# Altium integrated library Atmel Microcontroller AVR Battery Management.IntLib: 7 symbols
Pins are listed as number, name and electrical type; pins without a type are passive.

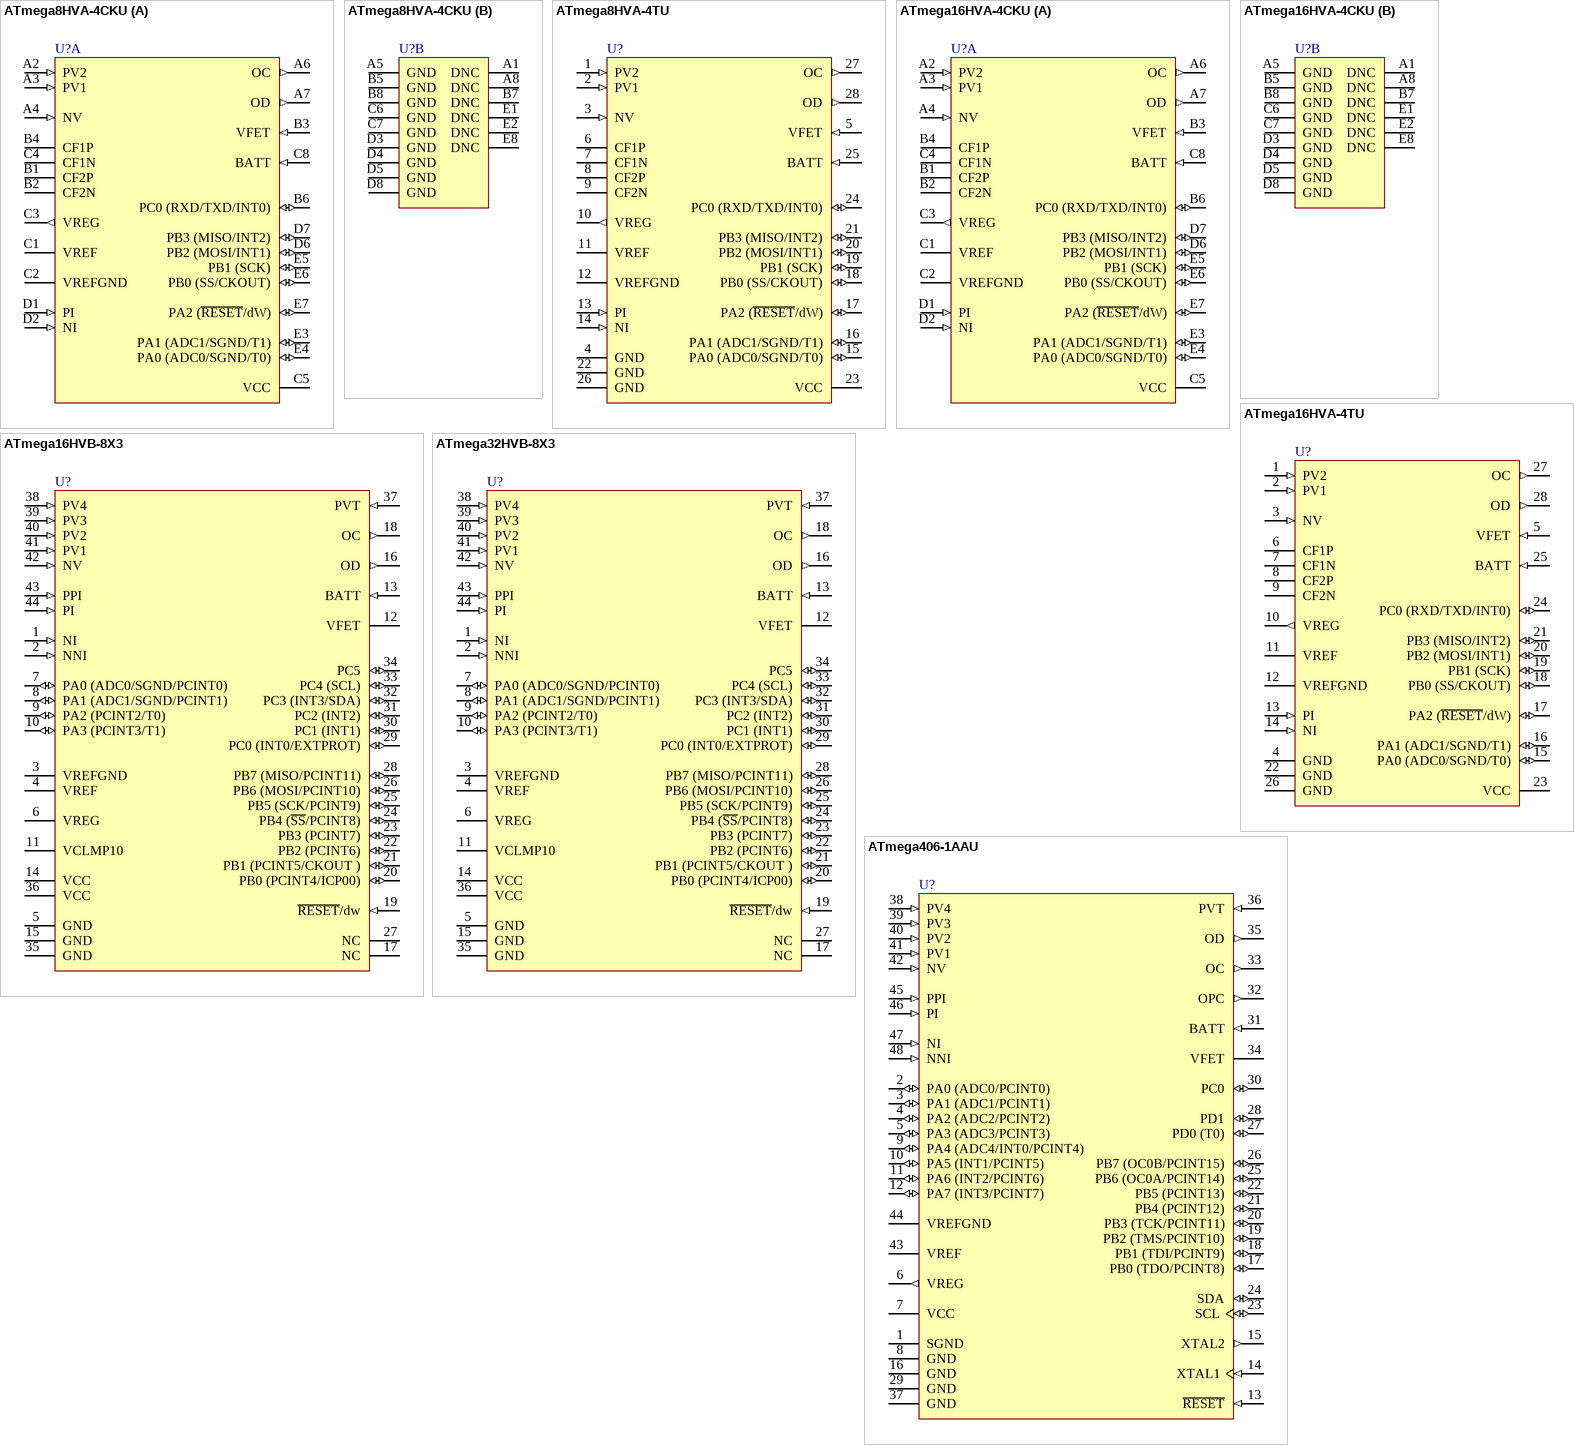
[diagram p0: symbols ATmega8HVA-4CKU to ATmega406-1AAU]

## ATmega8HVA-4CKU
designator U?
8-bit AVR Microcontroller, 8KB Flash, 256 Bytes EEPROM, 512 Bytes SRAM, 6 I/Os, (-20°C to +85°C), 36-pin LGA; DatasheetVersion: revA, Apr-2008; PackageVersion: Mar-2007; PackageReference: 36CK1; PackageDescription: 36-Ball Land Grid Array (LGA) Package, 6.5 x 3.5 x 0.73 mm Body, 0.60 mm Pitch; ComponentLink1Description: Manufacturer URL; ComponentLink1URL: http://www.atmel.com/; ComponentLink2Description: ATmega8HVA/16HVA Datasheet; ComponentLink2URL: http://www.atmel.com/dyn/resources/prod_documents/doc8024.pdf; ComponentLink3Description: ATmega8HVA/16HVA Summary; ComponentLink3URL: http://www.atmel.com/dyn/resources/prod_documents/8024S.pdf
footprint 36CK1 (BGA, 40-Leads, Body 3.5x6.5mm, Pitch 0.6mm)
part A pins: A2 PV2 (in), A3 PV1 (in), A4 NV (in), A6 OC (out), A7 OD (out), B1 CF2P, B2 CF2N, B3 VFET (in), B4 CF1P, B6 PC0 (RXD/TXD/INT0) (io), C1 VREF, C2 VREFGND (power), C3 VREG (out), C4 CF1N, C5 VCC (power), C8 BATT (in), D1 PI (in), D2 NI (in), D6 PB2 (MOSI/INT1) (io), D7 PB3 (MISO/INT2) (io), E3 PA1 (ADC1/SGND/T1) (io), E4 PA0 (ADC0/SGND/T0) (io), E5 PB1 (SCK) (io), E6 PB0 (SS/CKOUT) (io), E7 PA2 (~{RESET}/dW) (io)
part B pins: A1 DNC, A5 GND (power), A8 DNC, B5 GND (power), B7 DNC, B8 GND (power), C6 GND (power), C7 GND (power), D3 GND (power), D4 GND (power), D5 GND (power), D8 GND (power), E1 DNC, E2 DNC, E8 DNC

## ATmega8HVA-4TU
designator U?
8-bit AVR Microcontroller, 8KB Flash, 256 Bytes EEPROM, 512 Bytes SRAM, 6 I/Os, (-20°C to +85°C), 28-pin TSOP; DatasheetVersion: revA, Apr-2008; PackageVersion: revC, Dec-2002; PackageReference: 28T; PackageDescription: 28-Pin Plastic Thin Small Outline Package, Type 1 (TSOP), 8 x 13.4 mm; Code_JEDEC: MO-183; ComponentLink1Description: Manufacturer URL; ComponentLink1URL: http://www.atmel.com/; ComponentLink2Description: ATmega8HVA/16HVA Datasheet; ComponentLink2URL: http://www.atmel.com/dyn/resources/prod_documents/doc8024.pdf; ComponentLink3Description: ATmega8HVA/16HVA Summary; ComponentLink3URL: http://www.atmel.com/dyn/resources/prod_documents/8024S.pdf
footprint 28T_N (TSSOP, 28-Leads, Body 8x11.8mm, Pitch 0.55mm, IPC Medium Density)
footprint 28T_L (TSSOP, 28-Leads, Body 8x11.8mm, Pitch 0.55mm, IPC High Density)
footprint 28T_M (TSSOP, 28-Leads, Body 8x11.8mm, Pitch 0.55mm, IPC Low Density)
pins: 1 PV2 (in), 2 PV1 (in), 3 NV (in), 4 GND (power), 5 VFET (in), 6 CF1P, 7 CF1N, 8 CF2P, 9 CF2N, 10 VREG (out), 11 VREF, 12 VREFGND (power), 13 PI (in), 14 NI (in), 15 PA0 (ADC0/SGND/T0) (io), 16 PA1 (ADC1/SGND/T1) (io), 17 PA2 (~{RESET}/dW) (io), 18 PB0 (SS/CKOUT) (io), 19 PB1 (SCK) (io), 20 PB2 (MOSI/INT1) (io), 21 PB3 (MISO/INT2) (io), 22 GND (power), 23 VCC (power), 24 PC0 (RXD/TXD/INT0) (io), 25 BATT (in), 26 GND (power), 27 OC (out), 28 OD (out)

## ATmega16HVA-4CKU
designator U?
8-bit AVR Microcontroller, 16KB Flash, 256 Bytes EEPROM, 512 Bytes SRAM, 6 I/Os, (-20°C to +85°C), 36-pin LGA; DatasheetVersion: revA, Apr-2008; PackageVersion: Mar-2007; PackageReference: 36CK1; PackageDescription: 36-Ball Land Grid Array (LGA) Package, 6.5 x 3.5 x 0.73 mm Body, 0.60 mm Pitch; ComponentLink1Description: Manufacturer URL; ComponentLink1URL: http://www.atmel.com/; ComponentLink2Description: ATmega8HVA/16HVA Datasheet; ComponentLink2URL: http://www.atmel.com/dyn/resources/prod_documents/doc8024.pdf; ComponentLink3Description: ATmega8HVA/16HVA Summary; ComponentLink3URL: http://www.atmel.com/dyn/resources/prod_documents/8024S.pdf
footprint 36CK1 (BGA, 40-Leads, Body 3.5x6.5mm, Pitch 0.6mm)
part A pins: A2 PV2 (in), A3 PV1 (in), A4 NV (in), A6 OC (out), A7 OD (out), B1 CF2P, B2 CF2N, B3 VFET (in), B4 CF1P, B6 PC0 (RXD/TXD/INT0) (io), C1 VREF, C2 VREFGND (power), C3 VREG (out), C4 CF1N, C5 VCC (power), C8 BATT (in), D1 PI (in), D2 NI (in), D6 PB2 (MOSI/INT1) (io), D7 PB3 (MISO/INT2) (io), E3 PA1 (ADC1/SGND/T1) (io), E4 PA0 (ADC0/SGND/T0) (io), E5 PB1 (SCK) (io), E6 PB0 (SS/CKOUT) (io), E7 PA2 (~{RESET}/dW) (io)
part B pins: A1 DNC, A5 GND (power), A8 DNC, B5 GND (power), B7 DNC, B8 GND (power), C6 GND (power), C7 GND (power), D3 GND (power), D4 GND (power), D5 GND (power), D8 GND (power), E1 DNC, E2 DNC, E8 DNC

## ATmega16HVA-4TU
designator U?
8-bit AVR Microcontroller, 16KB Flash, 256 Bytes EEPROM, 512 Bytes SRAM, 6 I/Os, (-20°C to +85°C), 28-pin TSOP; DatasheetVersion: revA, Apr-2008; PackageVersion: revC, Dec-2002; PackageReference: 28T; PackageDescription: 28-Pin Plastic Thin Small Outline Package, Type 1 (TSOP), 8 x 13.4 mm; Code_JEDEC: MO-183; ComponentLink1Description: Manufacturer URL; ComponentLink1URL: http://www.atmel.com/; ComponentLink2Description: ATmega8HVA/16HVA Datasheet; ComponentLink2URL: http://www.atmel.com/dyn/resources/prod_documents/doc8024.pdf; ComponentLink3Description: ATmega8HVA/16HVA Summary; ComponentLink3URL: http://www.atmel.com/dyn/resources/prod_documents/8024S.pdf
footprint 28T_N (TSSOP, 28-Leads, Body 8x11.8mm, Pitch 0.55mm, IPC Medium Density)
footprint 28T_L (TSSOP, 28-Leads, Body 8x11.8mm, Pitch 0.55mm, IPC High Density)
footprint 28T_M (TSSOP, 28-Leads, Body 8x11.8mm, Pitch 0.55mm, IPC Low Density)
pins: 1 PV2 (in), 2 PV1 (in), 3 NV (in), 4 GND (power), 5 VFET (in), 6 CF1P, 7 CF1N, 8 CF2P, 9 CF2N, 10 VREG (out), 11 VREF, 12 VREFGND (power), 13 PI (in), 14 NI (in), 15 PA0 (ADC0/SGND/T0) (io), 16 PA1 (ADC1/SGND/T1) (io), 17 PA2 (~{RESET}/dW) (io), 18 PB0 (SS/CKOUT) (io), 19 PB1 (SCK) (io), 20 PB2 (MOSI/INT1) (io), 21 PB3 (MISO/INT2) (io), 22 GND (power), 23 VCC (power), 24 PC0 (RXD/TXD/INT0) (io), 25 BATT (in), 26 GND (power), 27 OC (out), 28 OD (out)

## ATmega16HVB-8X3
designator U?
8-bit AVR Microcontroller, 4-8V, 1-8MHz, 16KB Flash, 512 Bytes EEPROM, 1KB SRAM, 32 I/Os, (-40°C to +85°C), 44-pin TSSOP; DatasheetVersion: revD, Oct-2011; PackageVersion: revA, May-2007; PackageReference: 44X1; PackageDescription: 44-Pin Plastic Thin Shrink Small Outline Package, 11 x 4.4 mm Body,  0.5 mm Pitch (TSSOP); Code_JEDEC: MO-153-BE; ComponentLink1Description: Manufacturer URL; ComponentLink1URL: http://www.atmel.com/; ComponentLink2Description: ATmega16HVB/32HVB Datasheet; ComponentLink2URL: http://www.atmel.com/dyn/resources/prod_documents/doc8042.pdf; ComponentLink3Description: ATmega16HVB/32HVB Summary; ComponentLink3URL: http://www.atmel.com/dyn/resources/prod_documents/8042S.pdf
footprint 44X1_N (TSSOP, 44-Leads, Body 11x4.4mm, Pitch 0.5mm, IPC Medium Density)
footprint 44X1_L (TSSOP, 44-Leads, Body 11x4.4mm, Pitch 0.5mm, IPC High Density)
footprint 44X1_M (TSSOP, 44-Leads, Body 11x4.4mm, Pitch 0.5mm, IPC Low Density)
pins: 1 NI (in), 2 NNI (in), 3 VREFGND (power), 4 VREF (power), 5 GND (power), 6 VREG (power), 7 PA0 (ADC0/SGND/PCINT0) (io), 8 PA1 (ADC1/SGND/PCINT1) (io), 9 PA2 (PCINT2/T0) (io), 10 PA3 (PCINT3/T1) (io), 11 VCLMP10, 12 VFET (power), 13 BATT (in), 14 VCC (power), 15 GND (power), 16 OD (out), 17 NC, 18 OC (out), 19 ~{RESET}/dw (in), 20 PB0 (PCINT4/ICP00) (io), 21 PB1 (PCINT5/CKOUT ) (io), 22 PB2 (PCINT6) (io), 23 PB3 (PCINT7) (io), 24 PB4 (~{SS}/PCINT8) (io), 25 PB5 (SCK/PCINT9) (io), 26 PB6 (MOSI/PCINT10) (io), 27 NC, 28 PB7 (MISO/PCINT11) (io), 29 PC0 (INT0/EXTPROT) (io), 30 PC1 (INT1) (io), 31 PC2 (INT2) (io), 32 PC3 (INT3/SDA) (io), 33 PC4 (SCL) (io), 34 PC5 (io), 35 GND (power), 36 VCC (power), 37 PVT (in), 38 PV4 (in), 39 PV3 (in), 40 PV2 (in), 41 PV1 (in), 42 NV (in), 43 PPI (in), 44 PI (in)

## ATmega32HVB-8X3
designator U?
8-bit AVR Microcontroller, 4-8V, 1-8MHz, 32KB Flash, 1KB EEPROM, 2KB SRAM, 32 I/Os, (-40°C to +85°C), 44-pin TSSOP; DatasheetVersion: revD, Oct-2011; PackageVersion: revA, May-2007; PackageReference: 44X1; PackageDescription: 44-Pin Plastic Thin Shrink Small Outline Package, 11 x 4.4 mm Body,  0.5 mm Pitch (TSSOP); Code_JEDEC: MO-153-BE; ComponentLink1Description: Manufacturer URL; ComponentLink1URL: http://www.atmel.com/; ComponentLink2Description: ATmega16HVB/32HVB Datasheet; ComponentLink2URL: http://www.atmel.com/dyn/resources/prod_documents/doc8042.pdf; ComponentLink3Description: ATmega16HVB/32HVB Summary; ComponentLink3URL: http://www.atmel.com/dyn/resources/prod_documents/8042S.pdf
footprint 44X1_N (TSSOP, 44-Leads, Body 11x4.4mm, Pitch 0.5mm, IPC Medium Density)
footprint 44X1_L (TSSOP, 44-Leads, Body 11x4.4mm, Pitch 0.5mm, IPC High Density)
footprint 44X1_M (TSSOP, 44-Leads, Body 11x4.4mm, Pitch 0.5mm, IPC Low Density)
pins: 1 NI (in), 2 NNI (in), 3 VREFGND (power), 4 VREF (power), 5 GND (power), 6 VREG (power), 7 PA0 (ADC0/SGND/PCINT0) (io), 8 PA1 (ADC1/SGND/PCINT1) (io), 9 PA2 (PCINT2/T0) (io), 10 PA3 (PCINT3/T1) (io), 11 VCLMP10, 12 VFET (power), 13 BATT (in), 14 VCC (power), 15 GND (power), 16 OD (out), 17 NC, 18 OC (out), 19 ~{RESET}/dw (in), 20 PB0 (PCINT4/ICP00) (io), 21 PB1 (PCINT5/CKOUT ) (io), 22 PB2 (PCINT6) (io), 23 PB3 (PCINT7) (io), 24 PB4 (~{SS}/PCINT8) (io), 25 PB5 (SCK/PCINT9) (io), 26 PB6 (MOSI/PCINT10) (io), 27 NC, 28 PB7 (MISO/PCINT11) (io), 29 PC0 (INT0/EXTPROT) (io), 30 PC1 (INT1) (io), 31 PC2 (INT2) (io), 32 PC3 (INT3/SDA) (io), 33 PC4 (SCL) (io), 34 PC5 (io), 35 GND (power), 36 VCC (power), 37 PVT (in), 38 PV4 (in), 39 PV3 (in), 40 PV2 (in), 41 PV1 (in), 42 NV (in), 43 PPI (in), 44 PI (in)

## ATmega406-1AAU
designator U?
8-bit AVR Microcontroller, 40KB Flash, 512 Bytes EEPROM, 2KB SRAM, 48-pin LQFP, Industrial Grade (-30°C to 85°C); DatasheetVersion: revE, Jul-2006; PackageVersion: revC, Oct-2001; PackageReference: 48AA; PackageDescription: 48-Pin Plastic Low Profile Quad Flat Pack (LQFP), 7 x 7 x 1.4 mm Body, 0.5 mm Pitch; Code_JEDEC: MS-026-BBC; ComponentLink1Description: Manufacturer URL; ComponentLink1URL: http://www.atmel.com/; ComponentLink2Description: ATmega406 Datasheet; ComponentLink2URL: http://www.atmel.com/dyn/resources/prod_documents/doc2548.pdf; ComponentLink3Description: ATmega406 Summary; ComponentLink3URL: http://www.atmel.com/dyn/resources/prod_documents/2548S.pdf
footprint 48AA_N (Thin QFP, 48-Leads, Body 7x7mm, Pitch 0.5mm, IPC Medium Density)
footprint 48AA_L (Thin QFP, 48-Leads, Body 7x7mm, Pitch 0.5mm, IPC High Density)
footprint 48AA_M (Thin QFP, 48-Leads, Body 7x7mm, Pitch 0.5mm, IPC Low Density)
pins: 1 SGND (power), 2 PA0 (ADC0/PCINT0) (io), 3 PA1 (ADC1/PCINT1) (io), 4 PA2 (ADC2/PCINT2) (io), 5 PA3 (ADC3/PCINT3) (io), 6 VREG (out), 7 VCC (power), 8 GND (power), 9 PA4 (ADC4/INT0/PCINT4) (io), 10 PA5 (INT1/PCINT5) (io), 11 PA6 (INT2/PCINT6) (io), 12 PA7 (INT3/PCINT7) (io), 13 ~{RESET} (in), 14 XTAL1 (in), 15 XTAL2 (out), 16 GND (power), 17 PB0 (TDO/PCINT8) (io), 18 PB1 (TDI/PCINT9) (io), 19 PB2 (TMS/PCINT10) (io), 20 PB3 (TCK/PCINT11) (io), 21 PB4 (PCINT12) (io), 22 PB5 (PCINT13) (io), 23 SCL (io), 24 SDA (io), 25 PB6 (OC0A/PCINT14) (io), 26 PB7 (OC0B/PCINT15) (io), 27 PD0 (T0) (io), 28 PD1 (io), 29 GND (power), 30 PC0 (io), 31 BATT (in), 32 OPC (out), 33 OC (out), 34 VFET (power), 35 OD (out), 36 PVT (in), 37 GND (power), 38 PV4 (in), 39 PV3 (in), 40 PV2 (in), 41 PV1 (in), 42 NV (in), 43 VREF (power), 44 VREFGND (power), 45 PPI (in), 46 PI (in), 47 NI (in), 48 NNI (in)